# Altium schematic symbol library [R] Резисторы.SchLib: 168 symbols (part 1 of 2)
Pins are listed as number, name and electrical type; pins without a type are passive.

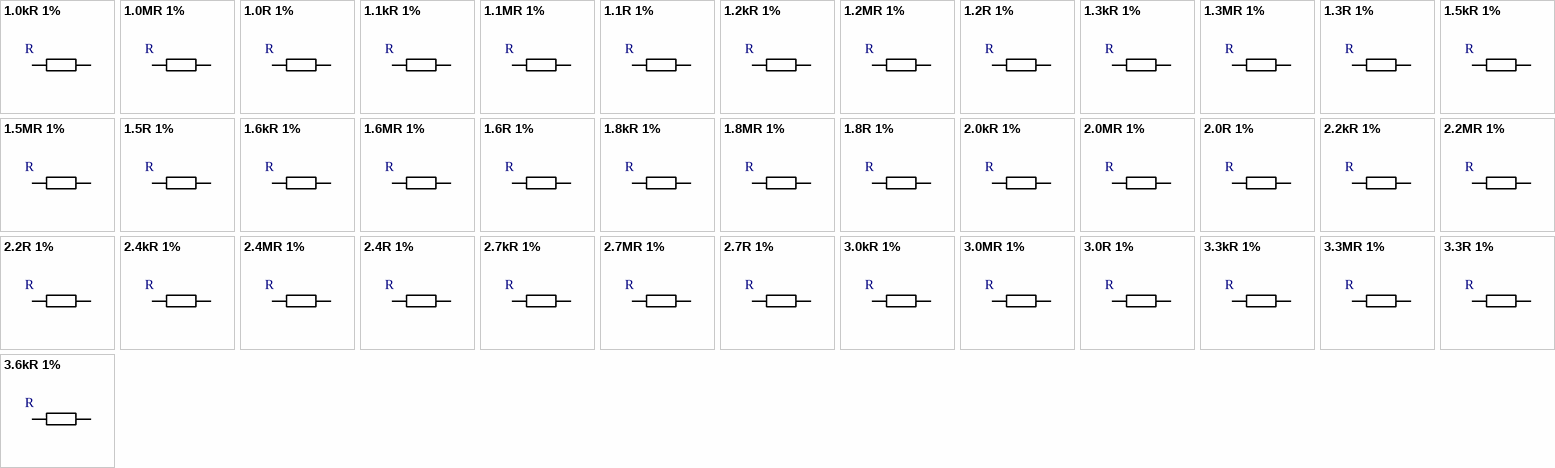
[diagram p0: symbols 1.0kR 1% to 3.6kR 1%]

## 1.0kR 1%
designator R
Сопротивление, кОм: 1,0; Допуск: 1%; ТКС, ppm/C°: 200; ComponentLink1Description: Мануал; ComponentLink1URL: https://cdn.promelec.ru/upload/items/2020/01/22/RC0075-RC2512_Yageoo_SMD-R_.pdf?_gl=1*1iqht8i*_ga*MTI0MzM3MDg3NS4xNzIyNzAwMzYz*_ga_LY608YRQ43*MTcyNTExODQ4Mi41LjEuMTcyNTEyNDIzMC4wLjAuMA..; Мощность, Вт: *
footprint RC 0603
footprint RC 0201
footprint RC 0402
footprint RC 0805
footprint RC 1206
footprint RC 2010
footprint RC 2512
pins: 1, 2

## 1.0MR 1%
designator R
Сопротивление, кОм: 1000; Допуск: 1%; ТКС, ppm/C°: 200; ComponentLink1Description: Мануал; ComponentLink1URL: https://cdn.promelec.ru/upload/items/2020/01/22/RC0075-RC2512_Yageoo_SMD-R_.pdf?_gl=1*1iqht8i*_ga*MTI0MzM3MDg3NS4xNzIyNzAwMzYz*_ga_LY608YRQ43*MTcyNTExODQ4Mi41LjEuMTcyNTEyNDIzMC4wLjAuMA..; Мощность, Вт: *
footprint RC 0603
footprint RC 0201
footprint RC 0402
footprint RC 0805
footprint RC 1206
footprint RC 2010
footprint RC 2512
pins: 1, 2

## 1.0R 1%
designator R
Сопротивление, кОм: 0,0010; Допуск: 1%; ТКС, ppm/C°: 200; ComponentLink1Description: Мануал; ComponentLink1URL: https://cdn.promelec.ru/upload/items/2020/01/22/RC0075-RC2512_Yageoo_SMD-R_.pdf?_gl=1*1iqht8i*_ga*MTI0MzM3MDg3NS4xNzIyNzAwMzYz*_ga_LY608YRQ43*MTcyNTExODQ4Mi41LjEuMTcyNTEyNDIzMC4wLjAuMA..; Мощность, Вт: *
footprint RC 0603
footprint RC 0201
footprint RC 0402
footprint RC 0805
footprint RC 1206
footprint RC 2010
footprint RC 2512
pins: 1, 2

## 1.1kR 1%
designator R
Сопротивление, кОм: 1,1; Допуск: 1%; ТКС, ppm/C°: 200; ComponentLink1Description: Мануал; ComponentLink1URL: https://cdn.promelec.ru/upload/items/2020/01/22/RC0075-RC2512_Yageoo_SMD-R_.pdf?_gl=1*1iqht8i*_ga*MTI0MzM3MDg3NS4xNzIyNzAwMzYz*_ga_LY608YRQ43*MTcyNTExODQ4Mi41LjEuMTcyNTEyNDIzMC4wLjAuMA..; Мощность, Вт: *
footprint RC 0603
footprint RC 0201
footprint RC 0402
footprint RC 0805
footprint RC 1206
footprint RC 2010
footprint RC 2512
pins: 1, 2

## 1.1MR 1%
designator R
Сопротивление, кОм: 1100; Допуск: 1%; ТКС, ppm/C°: 200; ComponentLink1Description: Мануал; ComponentLink1URL: https://cdn.promelec.ru/upload/items/2020/01/22/RC0075-RC2512_Yageoo_SMD-R_.pdf?_gl=1*1iqht8i*_ga*MTI0MzM3MDg3NS4xNzIyNzAwMzYz*_ga_LY608YRQ43*MTcyNTExODQ4Mi41LjEuMTcyNTEyNDIzMC4wLjAuMA..; Мощность, Вт: *
footprint RC 0603
footprint RC 0201
footprint RC 0402
footprint RC 0805
footprint RC 1206
footprint RC 2010
footprint RC 2512
pins: 1, 2

## 1.1R 1%
designator R
Сопротивление, кОм: 0,0011; Допуск: 1%; ТКС, ppm/C°: 200; ComponentLink1Description: Мануал; ComponentLink1URL: https://cdn.promelec.ru/upload/items/2020/01/22/RC0075-RC2512_Yageoo_SMD-R_.pdf?_gl=1*1iqht8i*_ga*MTI0MzM3MDg3NS4xNzIyNzAwMzYz*_ga_LY608YRQ43*MTcyNTExODQ4Mi41LjEuMTcyNTEyNDIzMC4wLjAuMA..; Мощность, Вт: *
footprint RC 0603
footprint RC 0201
footprint RC 0402
footprint RC 0805
footprint RC 1206
footprint RC 2010
footprint RC 2512
pins: 1, 2

## 1.2kR 1%
designator R
Сопротивление, кОм: 1,2; Допуск: 1%; ТКС, ppm/C°: 200; ComponentLink1Description: Мануал; ComponentLink1URL: https://cdn.promelec.ru/upload/items/2020/01/22/RC0075-RC2512_Yageoo_SMD-R_.pdf?_gl=1*1iqht8i*_ga*MTI0MzM3MDg3NS4xNzIyNzAwMzYz*_ga_LY608YRQ43*MTcyNTExODQ4Mi41LjEuMTcyNTEyNDIzMC4wLjAuMA..; Мощность, Вт: *
footprint RC 0603
footprint RC 0201
footprint RC 0402
footprint RC 0805
footprint RC 1206
footprint RC 2010
footprint RC 2512
pins: 1, 2

## 1.2MR 1%
designator R
Сопротивление, кОм: 1200; Допуск: 1%; ТКС, ppm/C°: 200; ComponentLink1Description: Мануал; ComponentLink1URL: https://cdn.promelec.ru/upload/items/2020/01/22/RC0075-RC2512_Yageoo_SMD-R_.pdf?_gl=1*1iqht8i*_ga*MTI0MzM3MDg3NS4xNzIyNzAwMzYz*_ga_LY608YRQ43*MTcyNTExODQ4Mi41LjEuMTcyNTEyNDIzMC4wLjAuMA..; Мощность, Вт: *
footprint RC 0603
footprint RC 0201
footprint RC 0402
footprint RC 0805
footprint RC 1206
footprint RC 2010
footprint RC 2512
pins: 1, 2

## 1.2R 1%
designator R
Сопротивление, кОм: 0,0012; Допуск: 1%; ТКС, ppm/C°: 200; ComponentLink1Description: Мануал; ComponentLink1URL: https://cdn.promelec.ru/upload/items/2020/01/22/RC0075-RC2512_Yageoo_SMD-R_.pdf?_gl=1*1iqht8i*_ga*MTI0MzM3MDg3NS4xNzIyNzAwMzYz*_ga_LY608YRQ43*MTcyNTExODQ4Mi41LjEuMTcyNTEyNDIzMC4wLjAuMA..; Мощность, Вт: *
footprint RC 0603
footprint RC 0201
footprint RC 0402
footprint RC 0805
footprint RC 1206
footprint RC 2010
footprint RC 2512
pins: 1, 2

## 1.3kR 1%
designator R
Сопротивление, кОм: 1,3; Допуск: 1%; ТКС, ppm/C°: 200; ComponentLink1Description: Мануал; ComponentLink1URL: https://cdn.promelec.ru/upload/items/2020/01/22/RC0075-RC2512_Yageoo_SMD-R_.pdf?_gl=1*1iqht8i*_ga*MTI0MzM3MDg3NS4xNzIyNzAwMzYz*_ga_LY608YRQ43*MTcyNTExODQ4Mi41LjEuMTcyNTEyNDIzMC4wLjAuMA..; Мощность, Вт: *
footprint RC 0603
footprint RC 0201
footprint RC 0402
footprint RC 0805
footprint RC 1206
footprint RC 2010
footprint RC 2512
pins: 1, 2

## 1.3MR 1%
designator R
Сопротивление, кОм: 1300; Допуск: 1%; ТКС, ppm/C°: 200; ComponentLink1Description: Мануал; ComponentLink1URL: https://cdn.promelec.ru/upload/items/2020/01/22/RC0075-RC2512_Yageoo_SMD-R_.pdf?_gl=1*1iqht8i*_ga*MTI0MzM3MDg3NS4xNzIyNzAwMzYz*_ga_LY608YRQ43*MTcyNTExODQ4Mi41LjEuMTcyNTEyNDIzMC4wLjAuMA..; Мощность, Вт: *
footprint RC 0603
footprint RC 0201
footprint RC 0402
footprint RC 0805
footprint RC 1206
footprint RC 2010
footprint RC 2512
pins: 1, 2

## 1.3R 1%
designator R
Сопротивление, кОм: 0,0013; Допуск: 1%; ТКС, ppm/C°: 200; ComponentLink1Description: Мануал; ComponentLink1URL: https://cdn.promelec.ru/upload/items/2020/01/22/RC0075-RC2512_Yageoo_SMD-R_.pdf?_gl=1*1iqht8i*_ga*MTI0MzM3MDg3NS4xNzIyNzAwMzYz*_ga_LY608YRQ43*MTcyNTExODQ4Mi41LjEuMTcyNTEyNDIzMC4wLjAuMA..; Мощность, Вт: *
footprint RC 0603
footprint RC 0201
footprint RC 0402
footprint RC 0805
footprint RC 1206
footprint RC 2010
footprint RC 2512
pins: 1, 2

## 1.5kR 1%
designator R
Сопротивление, кОм: 1,5; Допуск: 1%; ТКС, ppm/C°: 200; ComponentLink1Description: Мануал; ComponentLink1URL: https://cdn.promelec.ru/upload/items/2020/01/22/RC0075-RC2512_Yageoo_SMD-R_.pdf?_gl=1*1iqht8i*_ga*MTI0MzM3MDg3NS4xNzIyNzAwMzYz*_ga_LY608YRQ43*MTcyNTExODQ4Mi41LjEuMTcyNTEyNDIzMC4wLjAuMA..; Мощность, Вт: *
footprint RC 0603
footprint RC 0201
footprint RC 0402
footprint RC 0805
footprint RC 1206
footprint RC 2010
footprint RC 2512
pins: 1, 2

## 1.5MR 1%
designator R
Сопротивление, кОм: 1500; Допуск: 1%; ТКС, ppm/C°: 200; ComponentLink1Description: Мануал; ComponentLink1URL: https://cdn.promelec.ru/upload/items/2020/01/22/RC0075-RC2512_Yageoo_SMD-R_.pdf?_gl=1*1iqht8i*_ga*MTI0MzM3MDg3NS4xNzIyNzAwMzYz*_ga_LY608YRQ43*MTcyNTExODQ4Mi41LjEuMTcyNTEyNDIzMC4wLjAuMA..; Мощность, Вт: *
footprint RC 0603
footprint RC 0201
footprint RC 0402
footprint RC 0805
footprint RC 1206
footprint RC 2010
footprint RC 2512
pins: 1, 2

## 1.5R 1%
designator R
Сопротивление, кОм: 0,0015; Допуск: 1%; ТКС, ppm/C°: 200; ComponentLink1Description: Мануал; ComponentLink1URL: https://cdn.promelec.ru/upload/items/2020/01/22/RC0075-RC2512_Yageoo_SMD-R_.pdf?_gl=1*1iqht8i*_ga*MTI0MzM3MDg3NS4xNzIyNzAwMzYz*_ga_LY608YRQ43*MTcyNTExODQ4Mi41LjEuMTcyNTEyNDIzMC4wLjAuMA..; Мощность, Вт: *
footprint RC 0603
footprint RC 0201
footprint RC 0402
footprint RC 0805
footprint RC 1206
footprint RC 2010
footprint RC 2512
pins: 1, 2

## 1.6kR 1%
designator R
Сопротивление, кОм: 1,6; Допуск: 1%; ТКС, ppm/C°: 200; ComponentLink1Description: Мануал; ComponentLink1URL: https://cdn.promelec.ru/upload/items/2020/01/22/RC0075-RC2512_Yageoo_SMD-R_.pdf?_gl=1*1iqht8i*_ga*MTI0MzM3MDg3NS4xNzIyNzAwMzYz*_ga_LY608YRQ43*MTcyNTExODQ4Mi41LjEuMTcyNTEyNDIzMC4wLjAuMA..; Мощность, Вт: *
footprint RC 0603
footprint RC 0201
footprint RC 0402
footprint RC 0805
footprint RC 1206
footprint RC 2010
footprint RC 2512
pins: 1, 2

## 1.6MR 1%
designator R
Сопротивление, кОм: 1600; Допуск: 1%; ТКС, ppm/C°: 200; ComponentLink1Description: Мануал; ComponentLink1URL: https://cdn.promelec.ru/upload/items/2020/01/22/RC0075-RC2512_Yageoo_SMD-R_.pdf?_gl=1*1iqht8i*_ga*MTI0MzM3MDg3NS4xNzIyNzAwMzYz*_ga_LY608YRQ43*MTcyNTExODQ4Mi41LjEuMTcyNTEyNDIzMC4wLjAuMA..; Мощность, Вт: *
footprint RC 0603
footprint RC 0201
footprint RC 0402
footprint RC 0805
footprint RC 1206
footprint RC 2010
footprint RC 2512
pins: 1, 2

## 1.6R 1%
designator R
Сопротивление, кОм: 0,0016; Допуск: 1%; ТКС, ppm/C°: 200; ComponentLink1Description: Мануал; ComponentLink1URL: https://cdn.promelec.ru/upload/items/2020/01/22/RC0075-RC2512_Yageoo_SMD-R_.pdf?_gl=1*1iqht8i*_ga*MTI0MzM3MDg3NS4xNzIyNzAwMzYz*_ga_LY608YRQ43*MTcyNTExODQ4Mi41LjEuMTcyNTEyNDIzMC4wLjAuMA..; Мощность, Вт: *
footprint RC 0603
footprint RC 0201
footprint RC 0402
footprint RC 0805
footprint RC 1206
footprint RC 2010
footprint RC 2512
pins: 1, 2

## 1.8kR 1%
designator R
Сопротивление, кОм: 1,8; Допуск: 1%; ТКС, ppm/C°: 200; ComponentLink1Description: Мануал; ComponentLink1URL: https://cdn.promelec.ru/upload/items/2020/01/22/RC0075-RC2512_Yageoo_SMD-R_.pdf?_gl=1*1iqht8i*_ga*MTI0MzM3MDg3NS4xNzIyNzAwMzYz*_ga_LY608YRQ43*MTcyNTExODQ4Mi41LjEuMTcyNTEyNDIzMC4wLjAuMA..; Мощность, Вт: *
footprint RC 0603
footprint RC 0201
footprint RC 0402
footprint RC 0805
footprint RC 1206
footprint RC 2010
footprint RC 2512
pins: 1, 2

## 1.8MR 1%
designator R
Сопротивление, кОм: 1800; Допуск: 1%; ТКС, ppm/C°: 200; ComponentLink1Description: Мануал; ComponentLink1URL: https://cdn.promelec.ru/upload/items/2020/01/22/RC0075-RC2512_Yageoo_SMD-R_.pdf?_gl=1*1iqht8i*_ga*MTI0MzM3MDg3NS4xNzIyNzAwMzYz*_ga_LY608YRQ43*MTcyNTExODQ4Mi41LjEuMTcyNTEyNDIzMC4wLjAuMA..; Мощность, Вт: *
footprint RC 0603
footprint RC 0201
footprint RC 0402
footprint RC 0805
footprint RC 1206
footprint RC 2010
footprint RC 2512
pins: 1, 2

## 1.8R 1%
designator R
Сопротивление, кОм: 0,0018; Допуск: 1%; ТКС, ppm/C°: 200; ComponentLink1Description: Мануал; ComponentLink1URL: https://cdn.promelec.ru/upload/items/2020/01/22/RC0075-RC2512_Yageoo_SMD-R_.pdf?_gl=1*1iqht8i*_ga*MTI0MzM3MDg3NS4xNzIyNzAwMzYz*_ga_LY608YRQ43*MTcyNTExODQ4Mi41LjEuMTcyNTEyNDIzMC4wLjAuMA..; Мощность, Вт: *
footprint RC 0603
footprint RC 0201
footprint RC 0402
footprint RC 0805
footprint RC 1206
footprint RC 2010
footprint RC 2512
pins: 1, 2

## 2.0kR 1%
designator R
Сопротивление, кОм: 2,0; Допуск: 1%; ТКС, ppm/C°: 200; ComponentLink1Description: Мануал; ComponentLink1URL: https://cdn.promelec.ru/upload/items/2020/01/22/RC0075-RC2512_Yageoo_SMD-R_.pdf?_gl=1*1iqht8i*_ga*MTI0MzM3MDg3NS4xNzIyNzAwMzYz*_ga_LY608YRQ43*MTcyNTExODQ4Mi41LjEuMTcyNTEyNDIzMC4wLjAuMA..; Мощность, Вт: *
footprint RC 0603
footprint RC 0201
footprint RC 0402
footprint RC 0805
footprint RC 1206
footprint RC 2010
footprint RC 2512
pins: 1, 2

## 2.0MR 1%
designator R
Сопротивление, кОм: 2000; Допуск: 1%; ТКС, ppm/C°: 200; ComponentLink1Description: Мануал; ComponentLink1URL: https://cdn.promelec.ru/upload/items/2020/01/22/RC0075-RC2512_Yageoo_SMD-R_.pdf?_gl=1*1iqht8i*_ga*MTI0MzM3MDg3NS4xNzIyNzAwMzYz*_ga_LY608YRQ43*MTcyNTExODQ4Mi41LjEuMTcyNTEyNDIzMC4wLjAuMA..; Мощность, Вт: *
footprint RC 0603
footprint RC 0201
footprint RC 0402
footprint RC 0805
footprint RC 1206
footprint RC 2010
footprint RC 2512
pins: 1, 2

## 2.0R 1%
designator R
Сопротивление, кОм: 0,0020; Допуск: 1%; ТКС, ppm/C°: 200; ComponentLink1Description: Мануал; ComponentLink1URL: https://cdn.promelec.ru/upload/items/2020/01/22/RC0075-RC2512_Yageoo_SMD-R_.pdf?_gl=1*1iqht8i*_ga*MTI0MzM3MDg3NS4xNzIyNzAwMzYz*_ga_LY608YRQ43*MTcyNTExODQ4Mi41LjEuMTcyNTEyNDIzMC4wLjAuMA..; Мощность, Вт: *
footprint RC 0603
footprint RC 0201
footprint RC 0402
footprint RC 0805
footprint RC 1206
footprint RC 2010
footprint RC 2512
pins: 1, 2

## 2.2kR 1%
designator R
Сопротивление, кОм: 2,2; Допуск: 1%; ТКС, ppm/C°: 200; ComponentLink1Description: Мануал; ComponentLink1URL: https://cdn.promelec.ru/upload/items/2020/01/22/RC0075-RC2512_Yageoo_SMD-R_.pdf?_gl=1*1iqht8i*_ga*MTI0MzM3MDg3NS4xNzIyNzAwMzYz*_ga_LY608YRQ43*MTcyNTExODQ4Mi41LjEuMTcyNTEyNDIzMC4wLjAuMA..; Мощность, Вт: *
footprint RC 0603
footprint RC 0201
footprint RC 0402
footprint RC 0805
footprint RC 1206
footprint RC 2010
footprint RC 2512
pins: 1, 2

## 2.2MR 1%
designator R
Сопротивление, кОм: 2200; Допуск: 1%; ТКС, ppm/C°: 200; ComponentLink1Description: Мануал; ComponentLink1URL: https://cdn.promelec.ru/upload/items/2020/01/22/RC0075-RC2512_Yageoo_SMD-R_.pdf?_gl=1*1iqht8i*_ga*MTI0MzM3MDg3NS4xNzIyNzAwMzYz*_ga_LY608YRQ43*MTcyNTExODQ4Mi41LjEuMTcyNTEyNDIzMC4wLjAuMA..; Мощность, Вт: *
footprint RC 0603
footprint RC 0201
footprint RC 0402
footprint RC 0805
footprint RC 1206
footprint RC 2010
footprint RC 2512
pins: 1, 2

## 2.2R 1%
designator R
Сопротивление, кОм: 0,0022; Допуск: 1%; ТКС, ppm/C°: 200; ComponentLink1Description: Мануал; ComponentLink1URL: https://cdn.promelec.ru/upload/items/2020/01/22/RC0075-RC2512_Yageoo_SMD-R_.pdf?_gl=1*1iqht8i*_ga*MTI0MzM3MDg3NS4xNzIyNzAwMzYz*_ga_LY608YRQ43*MTcyNTExODQ4Mi41LjEuMTcyNTEyNDIzMC4wLjAuMA..; Мощность, Вт: *
footprint RC 0603
footprint RC 0201
footprint RC 0402
footprint RC 0805
footprint RC 1206
footprint RC 2010
footprint RC 2512
pins: 1, 2

## 2.4kR 1%
designator R
Сопротивление, кОм: 2,4; Допуск: 1%; ТКС, ppm/C°: 200; ComponentLink1Description: Мануал; ComponentLink1URL: https://cdn.promelec.ru/upload/items/2020/01/22/RC0075-RC2512_Yageoo_SMD-R_.pdf?_gl=1*1iqht8i*_ga*MTI0MzM3MDg3NS4xNzIyNzAwMzYz*_ga_LY608YRQ43*MTcyNTExODQ4Mi41LjEuMTcyNTEyNDIzMC4wLjAuMA..; Мощность, Вт: *
footprint RC 0603
footprint RC 0201
footprint RC 0402
footprint RC 0805
footprint RC 1206
footprint RC 2010
footprint RC 2512
pins: 1, 2

## 2.4MR 1%
designator R
Сопротивление, кОм: 2400; Допуск: 1%; ТКС, ppm/C°: 200; ComponentLink1Description: Мануал; ComponentLink1URL: https://cdn.promelec.ru/upload/items/2020/01/22/RC0075-RC2512_Yageoo_SMD-R_.pdf?_gl=1*1iqht8i*_ga*MTI0MzM3MDg3NS4xNzIyNzAwMzYz*_ga_LY608YRQ43*MTcyNTExODQ4Mi41LjEuMTcyNTEyNDIzMC4wLjAuMA..; Мощность, Вт: *
footprint RC 0603
footprint RC 0201
footprint RC 0402
footprint RC 0805
footprint RC 1206
footprint RC 2010
footprint RC 2512
pins: 1, 2

## 2.4R 1%
designator R
Сопротивление, кОм: 0,0024; Допуск: 1%; ТКС, ppm/C°: 200; ComponentLink1Description: Мануал; ComponentLink1URL: https://cdn.promelec.ru/upload/items/2020/01/22/RC0075-RC2512_Yageoo_SMD-R_.pdf?_gl=1*1iqht8i*_ga*MTI0MzM3MDg3NS4xNzIyNzAwMzYz*_ga_LY608YRQ43*MTcyNTExODQ4Mi41LjEuMTcyNTEyNDIzMC4wLjAuMA..; Мощность, Вт: *
footprint RC 0603
footprint RC 0201
footprint RC 0402
footprint RC 0805
footprint RC 1206
footprint RC 2010
footprint RC 2512
pins: 1, 2

## 2.7kR 1%
designator R
Сопротивление, кОм: 2,7; Допуск: 1%; ТКС, ppm/C°: 200; ComponentLink1Description: Мануал; ComponentLink1URL: https://cdn.promelec.ru/upload/items/2020/01/22/RC0075-RC2512_Yageoo_SMD-R_.pdf?_gl=1*1iqht8i*_ga*MTI0MzM3MDg3NS4xNzIyNzAwMzYz*_ga_LY608YRQ43*MTcyNTExODQ4Mi41LjEuMTcyNTEyNDIzMC4wLjAuMA..; Мощность, Вт: *
footprint RC 0603
footprint RC 0201
footprint RC 0402
footprint RC 0805
footprint RC 1206
footprint RC 2010
footprint RC 2512
pins: 1, 2

## 2.7MR 1%
designator R
Сопротивление, кОм: 2700; Допуск: 1%; ТКС, ppm/C°: 200; ComponentLink1Description: Мануал; ComponentLink1URL: https://cdn.promelec.ru/upload/items/2020/01/22/RC0075-RC2512_Yageoo_SMD-R_.pdf?_gl=1*1iqht8i*_ga*MTI0MzM3MDg3NS4xNzIyNzAwMzYz*_ga_LY608YRQ43*MTcyNTExODQ4Mi41LjEuMTcyNTEyNDIzMC4wLjAuMA..; Мощность, Вт: *
footprint RC 0603
footprint RC 0201
footprint RC 0402
footprint RC 0805
footprint RC 1206
footprint RC 2010
footprint RC 2512
pins: 1, 2

## 2.7R 1%
designator R
Сопротивление, кОм: 0,0027; Допуск: 1%; ТКС, ppm/C°: 200; ComponentLink1Description: Мануал; ComponentLink1URL: https://cdn.promelec.ru/upload/items/2020/01/22/RC0075-RC2512_Yageoo_SMD-R_.pdf?_gl=1*1iqht8i*_ga*MTI0MzM3MDg3NS4xNzIyNzAwMzYz*_ga_LY608YRQ43*MTcyNTExODQ4Mi41LjEuMTcyNTEyNDIzMC4wLjAuMA..; Мощность, Вт: *
footprint RC 0603
footprint RC 0201
footprint RC 0402
footprint RC 0805
footprint RC 1206
footprint RC 2010
footprint RC 2512
pins: 1, 2

## 3.0kR 1%
designator R
Сопротивление, кОм: 3,0; Допуск: 1%; ТКС, ppm/C°: 200; ComponentLink1Description: Мануал; ComponentLink1URL: https://cdn.promelec.ru/upload/items/2020/01/22/RC0075-RC2512_Yageoo_SMD-R_.pdf?_gl=1*1iqht8i*_ga*MTI0MzM3MDg3NS4xNzIyNzAwMzYz*_ga_LY608YRQ43*MTcyNTExODQ4Mi41LjEuMTcyNTEyNDIzMC4wLjAuMA..; Мощность, Вт: *
footprint RC 0603
footprint RC 0201
footprint RC 0402
footprint RC 0805
footprint RC 1206
footprint RC 2010
footprint RC 2512
pins: 1, 2

## 3.0MR 1%
designator R
Сопротивление, кОм: 3000; Допуск: 1%; ТКС, ppm/C°: 200; ComponentLink1Description: Мануал; ComponentLink1URL: https://cdn.promelec.ru/upload/items/2020/01/22/RC0075-RC2512_Yageoo_SMD-R_.pdf?_gl=1*1iqht8i*_ga*MTI0MzM3MDg3NS4xNzIyNzAwMzYz*_ga_LY608YRQ43*MTcyNTExODQ4Mi41LjEuMTcyNTEyNDIzMC4wLjAuMA..; Мощность, Вт: *
footprint RC 0603
footprint RC 0201
footprint RC 0402
footprint RC 0805
footprint RC 1206
footprint RC 2010
footprint RC 2512
pins: 1, 2

## 3.0R 1%
designator R
Сопротивление, кОм: 0,0030; Допуск: 1%; ТКС, ppm/C°: 200; ComponentLink1Description: Мануал; ComponentLink1URL: https://cdn.promelec.ru/upload/items/2020/01/22/RC0075-RC2512_Yageoo_SMD-R_.pdf?_gl=1*1iqht8i*_ga*MTI0MzM3MDg3NS4xNzIyNzAwMzYz*_ga_LY608YRQ43*MTcyNTExODQ4Mi41LjEuMTcyNTEyNDIzMC4wLjAuMA..; Мощность, Вт: *
footprint RC 0603
footprint RC 0201
footprint RC 0402
footprint RC 0805
footprint RC 1206
footprint RC 2010
footprint RC 2512
pins: 1, 2

## 3.3kR 1%
designator R
Сопротивление, кОм: 3,3; Допуск: 1%; ТКС, ppm/C°: 200; ComponentLink1Description: Мануал; ComponentLink1URL: https://cdn.promelec.ru/upload/items/2020/01/22/RC0075-RC2512_Yageoo_SMD-R_.pdf?_gl=1*1iqht8i*_ga*MTI0MzM3MDg3NS4xNzIyNzAwMzYz*_ga_LY608YRQ43*MTcyNTExODQ4Mi41LjEuMTcyNTEyNDIzMC4wLjAuMA..; Мощность, Вт: *
footprint RC 0603
footprint RC 0201
footprint RC 0402
footprint RC 0805
footprint RC 1206
footprint RC 2010
footprint RC 2512
pins: 1, 2

## 3.3MR 1%
designator R
Сопротивление, кОм: 3300; Допуск: 1%; ТКС, ppm/C°: 200; ComponentLink1Description: Мануал; ComponentLink1URL: https://cdn.promelec.ru/upload/items/2020/01/22/RC0075-RC2512_Yageoo_SMD-R_.pdf?_gl=1*1iqht8i*_ga*MTI0MzM3MDg3NS4xNzIyNzAwMzYz*_ga_LY608YRQ43*MTcyNTExODQ4Mi41LjEuMTcyNTEyNDIzMC4wLjAuMA..; Мощность, Вт: *
footprint RC 0603
footprint RC 0201
footprint RC 0402
footprint RC 0805
footprint RC 1206
footprint RC 2010
footprint RC 2512
pins: 1, 2

## 3.3R 1%
designator R
Сопротивление, кОм: 0,0033; Допуск: 1%; ТКС, ppm/C°: 200; ComponentLink1Description: Мануал; ComponentLink1URL: https://cdn.promelec.ru/upload/items/2020/01/22/RC0075-RC2512_Yageoo_SMD-R_.pdf?_gl=1*1iqht8i*_ga*MTI0MzM3MDg3NS4xNzIyNzAwMzYz*_ga_LY608YRQ43*MTcyNTExODQ4Mi41LjEuMTcyNTEyNDIzMC4wLjAuMA..; Мощность, Вт: *
footprint RC 0603
footprint RC 0201
footprint RC 0402
footprint RC 0805
footprint RC 1206
footprint RC 2010
footprint RC 2512
pins: 1, 2

## 3.6kR 1%
designator R
Сопротивление, кОм: 3,6; Допуск: 1%; ТКС, ppm/C°: 200; ComponentLink1Description: Мануал; ComponentLink1URL: https://cdn.promelec.ru/upload/items/2020/01/22/RC0075-RC2512_Yageoo_SMD-R_.pdf?_gl=1*1iqht8i*_ga*MTI0MzM3MDg3NS4xNzIyNzAwMzYz*_ga_LY608YRQ43*MTcyNTExODQ4Mi41LjEuMTcyNTEyNDIzMC4wLjAuMA..; Мощность, Вт: *
footprint RC 0603
footprint RC 0201
footprint RC 0402
footprint RC 0805
footprint RC 1206
footprint RC 2010
footprint RC 2512
pins: 1, 2

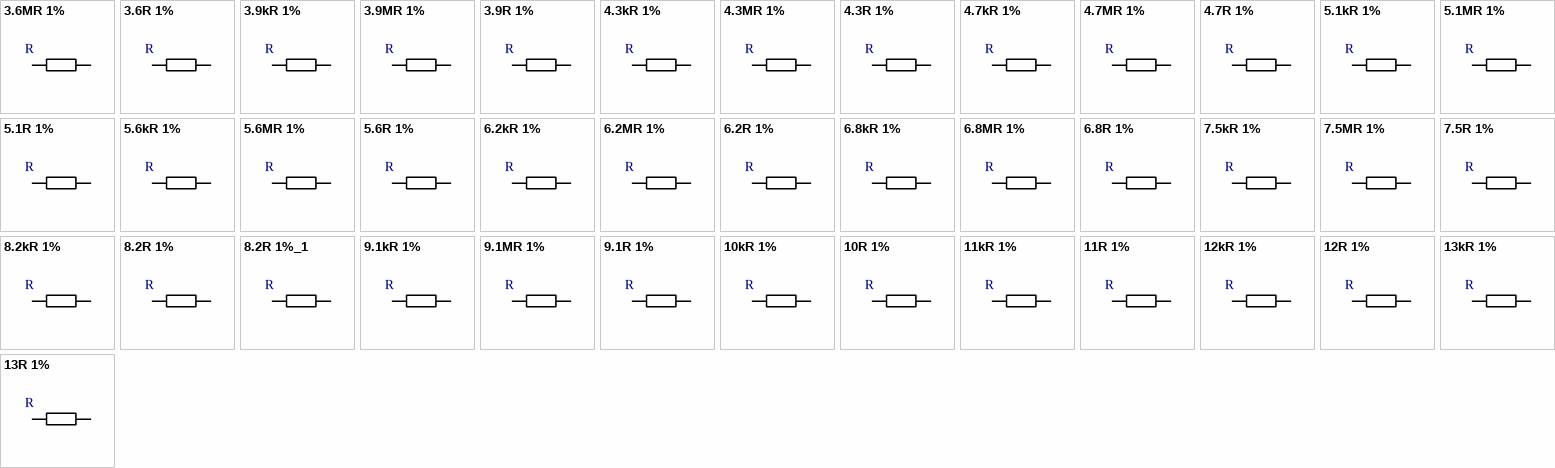
[diagram p1: symbols 3.6MR 1% to 13R 1%]

## 3.6MR 1%
designator R
Сопротивление, кОм: 3600; Допуск: 1%; ТКС, ppm/C°: 200; ComponentLink1Description: Мануал; ComponentLink1URL: https://cdn.promelec.ru/upload/items/2020/01/22/RC0075-RC2512_Yageoo_SMD-R_.pdf?_gl=1*1iqht8i*_ga*MTI0MzM3MDg3NS4xNzIyNzAwMzYz*_ga_LY608YRQ43*MTcyNTExODQ4Mi41LjEuMTcyNTEyNDIzMC4wLjAuMA..; Мощность, Вт: *
footprint RC 0603
footprint RC 0201
footprint RC 0402
footprint RC 0805
footprint RC 1206
footprint RC 2010
footprint RC 2512
pins: 1, 2

## 3.6R 1%
designator R
Сопротивление, кОм: 0,0036; Допуск: 1%; ТКС, ppm/C°: 200; ComponentLink1Description: Мануал; ComponentLink1URL: https://cdn.promelec.ru/upload/items/2020/01/22/RC0075-RC2512_Yageoo_SMD-R_.pdf?_gl=1*1iqht8i*_ga*MTI0MzM3MDg3NS4xNzIyNzAwMzYz*_ga_LY608YRQ43*MTcyNTExODQ4Mi41LjEuMTcyNTEyNDIzMC4wLjAuMA..; Мощность, Вт: *
footprint RC 0603
footprint RC 0201
footprint RC 0402
footprint RC 0805
footprint RC 1206
footprint RC 2010
footprint RC 2512
pins: 1, 2

## 3.9kR 1%
designator R
Сопротивление, кОм: 3,9; Допуск: 1%; ТКС, ppm/C°: 200; ComponentLink1Description: Мануал; ComponentLink1URL: https://cdn.promelec.ru/upload/items/2020/01/22/RC0075-RC2512_Yageoo_SMD-R_.pdf?_gl=1*1iqht8i*_ga*MTI0MzM3MDg3NS4xNzIyNzAwMzYz*_ga_LY608YRQ43*MTcyNTExODQ4Mi41LjEuMTcyNTEyNDIzMC4wLjAuMA..; Мощность, Вт: *
footprint RC 0603
footprint RC 0201
footprint RC 0402
footprint RC 0805
footprint RC 1206
footprint RC 2010
footprint RC 2512
pins: 1, 2

## 3.9MR 1%
designator R
Сопротивление, кОм: 3900; Допуск: 1%; ТКС, ppm/C°: 200; ComponentLink1Description: Мануал; ComponentLink1URL: https://cdn.promelec.ru/upload/items/2020/01/22/RC0075-RC2512_Yageoo_SMD-R_.pdf?_gl=1*1iqht8i*_ga*MTI0MzM3MDg3NS4xNzIyNzAwMzYz*_ga_LY608YRQ43*MTcyNTExODQ4Mi41LjEuMTcyNTEyNDIzMC4wLjAuMA..; Мощность, Вт: *
footprint RC 0603
footprint RC 0201
footprint RC 0402
footprint RC 0805
footprint RC 1206
footprint RC 2010
footprint RC 2512
pins: 1, 2

## 3.9R 1%
designator R
Сопротивление, кОм: 0,0039; Допуск: 1%; ТКС, ppm/C°: 200; ComponentLink1Description: Мануал; ComponentLink1URL: https://cdn.promelec.ru/upload/items/2020/01/22/RC0075-RC2512_Yageoo_SMD-R_.pdf?_gl=1*1iqht8i*_ga*MTI0MzM3MDg3NS4xNzIyNzAwMzYz*_ga_LY608YRQ43*MTcyNTExODQ4Mi41LjEuMTcyNTEyNDIzMC4wLjAuMA..; Мощность, Вт: *
footprint RC 0603
footprint RC 0201
footprint RC 0402
footprint RC 0805
footprint RC 1206
footprint RC 2010
footprint RC 2512
pins: 1, 2

## 4.3kR 1%
designator R
Сопротивление, кОм: 4,3; Допуск: 1%; ТКС, ppm/C°: 200; ComponentLink1Description: Мануал; ComponentLink1URL: https://cdn.promelec.ru/upload/items/2020/01/22/RC0075-RC2512_Yageoo_SMD-R_.pdf?_gl=1*1iqht8i*_ga*MTI0MzM3MDg3NS4xNzIyNzAwMzYz*_ga_LY608YRQ43*MTcyNTExODQ4Mi41LjEuMTcyNTEyNDIzMC4wLjAuMA..; Мощность, Вт: *
footprint RC 0603
footprint RC 0201
footprint RC 0402
footprint RC 0805
footprint RC 1206
footprint RC 2010
footprint RC 2512
pins: 1, 2

## 4.3MR 1%
designator R
Сопротивление, кОм: 4300; Допуск: 1%; ТКС, ppm/C°: 200; ComponentLink1Description: Мануал; ComponentLink1URL: https://cdn.promelec.ru/upload/items/2020/01/22/RC0075-RC2512_Yageoo_SMD-R_.pdf?_gl=1*1iqht8i*_ga*MTI0MzM3MDg3NS4xNzIyNzAwMzYz*_ga_LY608YRQ43*MTcyNTExODQ4Mi41LjEuMTcyNTEyNDIzMC4wLjAuMA..; Мощность, Вт: *
footprint RC 0603
footprint RC 0201
footprint RC 0402
footprint RC 0805
footprint RC 1206
footprint RC 2010
footprint RC 2512
pins: 1, 2

## 4.3R 1%
designator R
Сопротивление, кОм: 0,0043; Допуск: 1%; ТКС, ppm/C°: 200; ComponentLink1Description: Мануал; ComponentLink1URL: https://cdn.promelec.ru/upload/items/2020/01/22/RC0075-RC2512_Yageoo_SMD-R_.pdf?_gl=1*1iqht8i*_ga*MTI0MzM3MDg3NS4xNzIyNzAwMzYz*_ga_LY608YRQ43*MTcyNTExODQ4Mi41LjEuMTcyNTEyNDIzMC4wLjAuMA..; Мощность, Вт: *
footprint RC 0603
footprint RC 0201
footprint RC 0402
footprint RC 0805
footprint RC 1206
footprint RC 2010
footprint RC 2512
pins: 1, 2

## 4.7kR 1%
designator R
Сопротивление, кОм: 4,7; Допуск: 1%; ТКС, ppm/C°: 200; ComponentLink1Description: Мануал; ComponentLink1URL: https://cdn.promelec.ru/upload/items/2020/01/22/RC0075-RC2512_Yageoo_SMD-R_.pdf?_gl=1*1iqht8i*_ga*MTI0MzM3MDg3NS4xNzIyNzAwMzYz*_ga_LY608YRQ43*MTcyNTExODQ4Mi41LjEuMTcyNTEyNDIzMC4wLjAuMA..; Мощность, Вт: *
footprint RC 0603
footprint RC 0201
footprint RC 0402
footprint RC 0805
footprint RC 1206
footprint RC 2010
footprint RC 2512
pins: 1, 2

## 4.7MR 1%
designator R
Сопротивление, кОм: 4700; Допуск: 1%; ТКС, ppm/C°: 200; ComponentLink1Description: Мануал; ComponentLink1URL: https://cdn.promelec.ru/upload/items/2020/01/22/RC0075-RC2512_Yageoo_SMD-R_.pdf?_gl=1*1iqht8i*_ga*MTI0MzM3MDg3NS4xNzIyNzAwMzYz*_ga_LY608YRQ43*MTcyNTExODQ4Mi41LjEuMTcyNTEyNDIzMC4wLjAuMA..; Мощность, Вт: *
footprint RC 0603
footprint RC 0201
footprint RC 0402
footprint RC 0805
footprint RC 1206
footprint RC 2010
footprint RC 2512
pins: 1, 2

## 4.7R 1%
designator R
Сопротивление, кОм: 0,0047; Допуск: 1%; ТКС, ppm/C°: 200; ComponentLink1Description: Мануал; ComponentLink1URL: https://cdn.promelec.ru/upload/items/2020/01/22/RC0075-RC2512_Yageoo_SMD-R_.pdf?_gl=1*1iqht8i*_ga*MTI0MzM3MDg3NS4xNzIyNzAwMzYz*_ga_LY608YRQ43*MTcyNTExODQ4Mi41LjEuMTcyNTEyNDIzMC4wLjAuMA..; Мощность, Вт: *
footprint RC 0603
footprint RC 0201
footprint RC 0402
footprint RC 0805
footprint RC 1206
footprint RC 2010
footprint RC 2512
pins: 1, 2

## 5.1kR 1%
designator R
Сопротивление, кОм: 5,1; Допуск: 1%; ТКС, ppm/C°: 200; ComponentLink1Description: Мануал; ComponentLink1URL: https://cdn.promelec.ru/upload/items/2020/01/22/RC0075-RC2512_Yageoo_SMD-R_.pdf?_gl=1*1iqht8i*_ga*MTI0MzM3MDg3NS4xNzIyNzAwMzYz*_ga_LY608YRQ43*MTcyNTExODQ4Mi41LjEuMTcyNTEyNDIzMC4wLjAuMA..; Мощность, Вт: *
footprint RC 0603
footprint RC 0201
footprint RC 0402
footprint RC 0805
footprint RC 1206
footprint RC 2010
footprint RC 2512
pins: 1, 2

## 5.1MR 1%
designator R
Сопротивление, кОм: 5100; Допуск: 1%; ТКС, ppm/C°: 200; ComponentLink1Description: Мануал; ComponentLink1URL: https://cdn.promelec.ru/upload/items/2020/01/22/RC0075-RC2512_Yageoo_SMD-R_.pdf?_gl=1*1iqht8i*_ga*MTI0MzM3MDg3NS4xNzIyNzAwMzYz*_ga_LY608YRQ43*MTcyNTExODQ4Mi41LjEuMTcyNTEyNDIzMC4wLjAuMA..; Мощность, Вт: *
footprint RC 0603
footprint RC 0201
footprint RC 0402
footprint RC 0805
footprint RC 1206
footprint RC 2010
footprint RC 2512
pins: 1, 2

## 5.1R 1%
designator R
Сопротивление, кОм: 0,0051; Допуск: 1%; ТКС, ppm/C°: 200; ComponentLink1Description: Мануал; ComponentLink1URL: https://cdn.promelec.ru/upload/items/2020/01/22/RC0075-RC2512_Yageoo_SMD-R_.pdf?_gl=1*1iqht8i*_ga*MTI0MzM3MDg3NS4xNzIyNzAwMzYz*_ga_LY608YRQ43*MTcyNTExODQ4Mi41LjEuMTcyNTEyNDIzMC4wLjAuMA..; Мощность, Вт: *
footprint RC 0603
footprint RC 0201
footprint RC 0402
footprint RC 0805
footprint RC 1206
footprint RC 2010
footprint RC 2512
pins: 1, 2

## 5.6kR 1%
designator R
Сопротивление, кОм: 5,6; Допуск: 1%; ТКС, ppm/C°: 200; ComponentLink1Description: Мануал; ComponentLink1URL: https://cdn.promelec.ru/upload/items/2020/01/22/RC0075-RC2512_Yageoo_SMD-R_.pdf?_gl=1*1iqht8i*_ga*MTI0MzM3MDg3NS4xNzIyNzAwMzYz*_ga_LY608YRQ43*MTcyNTExODQ4Mi41LjEuMTcyNTEyNDIzMC4wLjAuMA..; Мощность, Вт: *
footprint RC 0603
footprint RC 0201
footprint RC 0402
footprint RC 0805
footprint RC 1206
footprint RC 2010
footprint RC 2512
pins: 1, 2

## 5.6MR 1%
designator R
Сопротивление, кОм: 5600; Допуск: 1%; ТКС, ppm/C°: 200; ComponentLink1Description: Мануал; ComponentLink1URL: https://cdn.promelec.ru/upload/items/2020/01/22/RC0075-RC2512_Yageoo_SMD-R_.pdf?_gl=1*1iqht8i*_ga*MTI0MzM3MDg3NS4xNzIyNzAwMzYz*_ga_LY608YRQ43*MTcyNTExODQ4Mi41LjEuMTcyNTEyNDIzMC4wLjAuMA..; Мощность, Вт: *
footprint RC 0603
footprint RC 0201
footprint RC 0402
footprint RC 0805
footprint RC 1206
footprint RC 2010
footprint RC 2512
pins: 1, 2

## 5.6R 1%
designator R
Сопротивление, кОм: 0,0056; Допуск: 1%; ТКС, ppm/C°: 200; ComponentLink1Description: Мануал; ComponentLink1URL: https://cdn.promelec.ru/upload/items/2020/01/22/RC0075-RC2512_Yageoo_SMD-R_.pdf?_gl=1*1iqht8i*_ga*MTI0MzM3MDg3NS4xNzIyNzAwMzYz*_ga_LY608YRQ43*MTcyNTExODQ4Mi41LjEuMTcyNTEyNDIzMC4wLjAuMA..; Мощность, Вт: *
footprint RC 0603
footprint RC 0201
footprint RC 0402
footprint RC 0805
footprint RC 1206
footprint RC 2010
footprint RC 2512
pins: 1, 2

## 6.2kR 1%
designator R
Сопротивление, кОм: 6,2; Допуск: 1%; ТКС, ppm/C°: 200; ComponentLink1Description: Мануал; ComponentLink1URL: https://cdn.promelec.ru/upload/items/2020/01/22/RC0075-RC2512_Yageoo_SMD-R_.pdf?_gl=1*1iqht8i*_ga*MTI0MzM3MDg3NS4xNzIyNzAwMzYz*_ga_LY608YRQ43*MTcyNTExODQ4Mi41LjEuMTcyNTEyNDIzMC4wLjAuMA..; Мощность, Вт: *
footprint RC 0603
footprint RC 0201
footprint RC 0402
footprint RC 0805
footprint RC 1206
footprint RC 2010
footprint RC 2512
pins: 1, 2

## 6.2MR 1%
designator R
Сопротивление, кОм: 6200; Допуск: 1%; ТКС, ppm/C°: 200; ComponentLink1Description: Мануал; ComponentLink1URL: https://cdn.promelec.ru/upload/items/2020/01/22/RC0075-RC2512_Yageoo_SMD-R_.pdf?_gl=1*1iqht8i*_ga*MTI0MzM3MDg3NS4xNzIyNzAwMzYz*_ga_LY608YRQ43*MTcyNTExODQ4Mi41LjEuMTcyNTEyNDIzMC4wLjAuMA..; Мощность, Вт: *
footprint RC 0603
footprint RC 0201
footprint RC 0402
footprint RC 0805
footprint RC 1206
footprint RC 2010
footprint RC 2512
pins: 1, 2

## 6.2R 1%
designator R
Сопротивление, кОм: 0,0062; Допуск: 1%; ТКС, ppm/C°: 200; ComponentLink1Description: Мануал; ComponentLink1URL: https://cdn.promelec.ru/upload/items/2020/01/22/RC0075-RC2512_Yageoo_SMD-R_.pdf?_gl=1*1iqht8i*_ga*MTI0MzM3MDg3NS4xNzIyNzAwMzYz*_ga_LY608YRQ43*MTcyNTExODQ4Mi41LjEuMTcyNTEyNDIzMC4wLjAuMA..; Мощность, Вт: *
footprint RC 0603
footprint RC 0201
footprint RC 0402
footprint RC 0805
footprint RC 1206
footprint RC 2010
footprint RC 2512
pins: 1, 2

## 6.8kR 1%
designator R
Сопротивление, кОм: 6,8; Допуск: 1%; ТКС, ppm/C°: 200; ComponentLink1Description: Мануал; ComponentLink1URL: https://cdn.promelec.ru/upload/items/2020/01/22/RC0075-RC2512_Yageoo_SMD-R_.pdf?_gl=1*1iqht8i*_ga*MTI0MzM3MDg3NS4xNzIyNzAwMzYz*_ga_LY608YRQ43*MTcyNTExODQ4Mi41LjEuMTcyNTEyNDIzMC4wLjAuMA..; Мощность, Вт: *
footprint RC 0603
footprint RC 0201
footprint RC 0402
footprint RC 0805
footprint RC 1206
footprint RC 2010
footprint RC 2512
pins: 1, 2

## 6.8MR 1%
designator R
Сопротивление, кОм: 6800; Допуск: 1%; ТКС, ppm/C°: 200; ComponentLink1Description: Мануал; ComponentLink1URL: https://cdn.promelec.ru/upload/items/2020/01/22/RC0075-RC2512_Yageoo_SMD-R_.pdf?_gl=1*1iqht8i*_ga*MTI0MzM3MDg3NS4xNzIyNzAwMzYz*_ga_LY608YRQ43*MTcyNTExODQ4Mi41LjEuMTcyNTEyNDIzMC4wLjAuMA..; Мощность, Вт: *
footprint RC 0603
footprint RC 0201
footprint RC 0402
footprint RC 0805
footprint RC 1206
footprint RC 2010
footprint RC 2512
pins: 1, 2

## 6.8R 1%
designator R
Сопротивление, кОм: 0,0068; Допуск: 1%; ТКС, ppm/C°: 200; ComponentLink1Description: Мануал; ComponentLink1URL: https://cdn.promelec.ru/upload/items/2020/01/22/RC0075-RC2512_Yageoo_SMD-R_.pdf?_gl=1*1iqht8i*_ga*MTI0MzM3MDg3NS4xNzIyNzAwMzYz*_ga_LY608YRQ43*MTcyNTExODQ4Mi41LjEuMTcyNTEyNDIzMC4wLjAuMA..; Мощность, Вт: *
footprint RC 0603
footprint RC 0201
footprint RC 0402
footprint RC 0805
footprint RC 1206
footprint RC 2010
footprint RC 2512
pins: 1, 2

## 7.5kR 1%
designator R
Сопротивление, кОм: 7,5; Допуск: 1%; ТКС, ppm/C°: 200; ComponentLink1Description: Мануал; ComponentLink1URL: https://cdn.promelec.ru/upload/items/2020/01/22/RC0075-RC2512_Yageoo_SMD-R_.pdf?_gl=1*1iqht8i*_ga*MTI0MzM3MDg3NS4xNzIyNzAwMzYz*_ga_LY608YRQ43*MTcyNTExODQ4Mi41LjEuMTcyNTEyNDIzMC4wLjAuMA..; Мощность, Вт: *
footprint RC 0603
footprint RC 0201
footprint RC 0402
footprint RC 0805
footprint RC 1206
footprint RC 2010
footprint RC 2512
pins: 1, 2

## 7.5MR 1%
designator R
Сопротивление, кОм: 7500; Допуск: 1%; ТКС, ppm/C°: 200; ComponentLink1Description: Мануал; ComponentLink1URL: https://cdn.promelec.ru/upload/items/2020/01/22/RC0075-RC2512_Yageoo_SMD-R_.pdf?_gl=1*1iqht8i*_ga*MTI0MzM3MDg3NS4xNzIyNzAwMzYz*_ga_LY608YRQ43*MTcyNTExODQ4Mi41LjEuMTcyNTEyNDIzMC4wLjAuMA..; Мощность, Вт: *
footprint RC 0603
footprint RC 0201
footprint RC 0402
footprint RC 0805
footprint RC 1206
footprint RC 2010
footprint RC 2512
pins: 1, 2

## 7.5R 1%
designator R
Сопротивление, кОм: 0,0075; Допуск: 1%; ТКС, ppm/C°: 200; ComponentLink1Description: Мануал; ComponentLink1URL: https://cdn.promelec.ru/upload/items/2020/01/22/RC0075-RC2512_Yageoo_SMD-R_.pdf?_gl=1*1iqht8i*_ga*MTI0MzM3MDg3NS4xNzIyNzAwMzYz*_ga_LY608YRQ43*MTcyNTExODQ4Mi41LjEuMTcyNTEyNDIzMC4wLjAuMA..; Мощность, Вт: *
footprint RC 0603
footprint RC 0201
footprint RC 0402
footprint RC 0805
footprint RC 1206
footprint RC 2010
footprint RC 2512
pins: 1, 2

## 8.2kR 1%
designator R
Сопротивление, кОм: 8,2; Допуск: 1%; ТКС, ppm/C°: 200; ComponentLink1Description: Мануал; ComponentLink1URL: https://cdn.promelec.ru/upload/items/2020/01/22/RC0075-RC2512_Yageoo_SMD-R_.pdf?_gl=1*1iqht8i*_ga*MTI0MzM3MDg3NS4xNzIyNzAwMzYz*_ga_LY608YRQ43*MTcyNTExODQ4Mi41LjEuMTcyNTEyNDIzMC4wLjAuMA..; Мощность, Вт: *
footprint RC 0603
footprint RC 0201
footprint RC 0402
footprint RC 0805
footprint RC 1206
footprint RC 2010
footprint RC 2512
pins: 1, 2

## 8.2R 1%
designator R
Сопротивление, кОм: 8200; Допуск: 1%; ТКС, ppm/C°: 200; ComponentLink1Description: Мануал; ComponentLink1URL: https://cdn.promelec.ru/upload/items/2020/01/22/RC0075-RC2512_Yageoo_SMD-R_.pdf?_gl=1*1iqht8i*_ga*MTI0MzM3MDg3NS4xNzIyNzAwMzYz*_ga_LY608YRQ43*MTcyNTExODQ4Mi41LjEuMTcyNTEyNDIzMC4wLjAuMA..; Мощность, Вт: *
footprint RC 0603
footprint RC 0201
footprint RC 0402
footprint RC 0805
footprint RC 1206
footprint RC 2010
footprint RC 2512
pins: 1, 2

## 8.2R 1%_1
designator R
Сопротивление, кОм: 0,0082; Допуск: 1%; ТКС, ppm/C°: 200; ComponentLink1Description: Мануал; ComponentLink1URL: https://cdn.promelec.ru/upload/items/2020/01/22/RC0075-RC2512_Yageoo_SMD-R_.pdf?_gl=1*1iqht8i*_ga*MTI0MzM3MDg3NS4xNzIyNzAwMzYz*_ga_LY608YRQ43*MTcyNTExODQ4Mi41LjEuMTcyNTEyNDIzMC4wLjAuMA..; Мощность, Вт: *
footprint RC 0603
footprint RC 0201
footprint RC 0402
footprint RC 0805
footprint RC 1206
footprint RC 2010
footprint RC 2512
pins: 1, 2

## 9.1kR 1%
designator R
Сопротивление, кОм: 9,1; Допуск: 1%; ТКС, ppm/C°: 200; ComponentLink1Description: Мануал; ComponentLink1URL: https://cdn.promelec.ru/upload/items/2020/01/22/RC0075-RC2512_Yageoo_SMD-R_.pdf?_gl=1*1iqht8i*_ga*MTI0MzM3MDg3NS4xNzIyNzAwMzYz*_ga_LY608YRQ43*MTcyNTExODQ4Mi41LjEuMTcyNTEyNDIzMC4wLjAuMA..; Мощность, Вт: *
footprint RC 0603
footprint RC 0201
footprint RC 0402
footprint RC 0805
footprint RC 1206
footprint RC 2010
footprint RC 2512
pins: 1, 2

## 9.1MR 1%
designator R
Сопротивление, кОм: 9100; Допуск: 1%; ТКС, ppm/C°: 200; ComponentLink1Description: Мануал; ComponentLink1URL: https://cdn.promelec.ru/upload/items/2020/01/22/RC0075-RC2512_Yageoo_SMD-R_.pdf?_gl=1*1iqht8i*_ga*MTI0MzM3MDg3NS4xNzIyNzAwMzYz*_ga_LY608YRQ43*MTcyNTExODQ4Mi41LjEuMTcyNTEyNDIzMC4wLjAuMA..; Мощность, Вт: *
footprint RC 0603
footprint RC 0201
footprint RC 0402
footprint RC 0805
footprint RC 1206
footprint RC 2010
footprint RC 2512
pins: 1, 2

## 9.1R 1%
designator R
Сопротивление, кОм: 0,0091; Допуск: 1%; ТКС, ppm/C°: 200; ComponentLink1Description: Мануал; ComponentLink1URL: https://cdn.promelec.ru/upload/items/2020/01/22/RC0075-RC2512_Yageoo_SMD-R_.pdf?_gl=1*1iqht8i*_ga*MTI0MzM3MDg3NS4xNzIyNzAwMzYz*_ga_LY608YRQ43*MTcyNTExODQ4Mi41LjEuMTcyNTEyNDIzMC4wLjAuMA..; Мощность, Вт: *
footprint RC 0603
footprint RC 0201
footprint RC 0402
footprint RC 0805
footprint RC 1206
footprint RC 2010
footprint RC 2512
pins: 1, 2

## 10kR 1%
designator R
Сопротивление, кОм: 10,0; Допуск: 1%; ТКС, ppm/C°: 200; ComponentLink1Description: Мануал; ComponentLink1URL: https://cdn.promelec.ru/upload/items/2020/01/22/RC0075-RC2512_Yageoo_SMD-R_.pdf?_gl=1*1iqht8i*_ga*MTI0MzM3MDg3NS4xNzIyNzAwMzYz*_ga_LY608YRQ43*MTcyNTExODQ4Mi41LjEuMTcyNTEyNDIzMC4wLjAuMA..; Мощность, Вт: *
footprint RC 0603
footprint RC 0201
footprint RC 0402
footprint RC 0805
footprint RC 1206
footprint RC 2010
footprint RC 2512
pins: 1, 2

## 10R 1%
designator R
Сопротивление, кОм: 0,010; Допуск: 1%; ТКС, ppm/C°: 200; ComponentLink1Description: Мануал; ComponentLink1URL: https://cdn.promelec.ru/upload/items/2020/01/22/RC0075-RC2512_Yageoo_SMD-R_.pdf?_gl=1*1iqht8i*_ga*MTI0MzM3MDg3NS4xNzIyNzAwMzYz*_ga_LY608YRQ43*MTcyNTExODQ4Mi41LjEuMTcyNTEyNDIzMC4wLjAuMA..; Мощность, Вт: *
footprint RC 0603
footprint RC 0201
footprint RC 0402
footprint RC 0805
footprint RC 1206
footprint RC 2010
footprint RC 2512
pins: 1, 2

## 11kR 1%
designator R
Сопротивление, кОм: 11,0; Допуск: 1%; ТКС, ppm/C°: 200; ComponentLink1Description: Мануал; ComponentLink1URL: https://cdn.promelec.ru/upload/items/2020/01/22/RC0075-RC2512_Yageoo_SMD-R_.pdf?_gl=1*1iqht8i*_ga*MTI0MzM3MDg3NS4xNzIyNzAwMzYz*_ga_LY608YRQ43*MTcyNTExODQ4Mi41LjEuMTcyNTEyNDIzMC4wLjAuMA..; Мощность, Вт: *
footprint RC 0603
footprint RC 0201
footprint RC 0402
footprint RC 0805
footprint RC 1206
footprint RC 2010
footprint RC 2512
pins: 1, 2

## 11R 1%
designator R
Сопротивление, кОм: 0,011; Допуск: 1%; ТКС, ppm/C°: 200; ComponentLink1Description: Мануал; ComponentLink1URL: https://cdn.promelec.ru/upload/items/2020/01/22/RC0075-RC2512_Yageoo_SMD-R_.pdf?_gl=1*1iqht8i*_ga*MTI0MzM3MDg3NS4xNzIyNzAwMzYz*_ga_LY608YRQ43*MTcyNTExODQ4Mi41LjEuMTcyNTEyNDIzMC4wLjAuMA..; Мощность, Вт: *
footprint RC 0603
footprint RC 0201
footprint RC 0402
footprint RC 0805
footprint RC 1206
footprint RC 2010
footprint RC 2512
pins: 1, 2

## 12kR 1%
designator R
Сопротивление, кОм: 12,0; Допуск: 1%; ТКС, ppm/C°: 200; ComponentLink1Description: Мануал; ComponentLink1URL: https://cdn.promelec.ru/upload/items/2020/01/22/RC0075-RC2512_Yageoo_SMD-R_.pdf?_gl=1*1iqht8i*_ga*MTI0MzM3MDg3NS4xNzIyNzAwMzYz*_ga_LY608YRQ43*MTcyNTExODQ4Mi41LjEuMTcyNTEyNDIzMC4wLjAuMA..; Мощность, Вт: *
footprint RC 0603
footprint RC 0201
footprint RC 0402
footprint RC 0805
footprint RC 1206
footprint RC 2010
footprint RC 2512
pins: 1, 2

## 12R 1%
designator R
Сопротивление, кОм: 0,012; Допуск: 1%; ТКС, ppm/C°: 200; ComponentLink1Description: Мануал; ComponentLink1URL: https://cdn.promelec.ru/upload/items/2020/01/22/RC0075-RC2512_Yageoo_SMD-R_.pdf?_gl=1*1iqht8i*_ga*MTI0MzM3MDg3NS4xNzIyNzAwMzYz*_ga_LY608YRQ43*MTcyNTExODQ4Mi41LjEuMTcyNTEyNDIzMC4wLjAuMA..; Мощность, Вт: *
footprint RC 0603
footprint RC 0201
footprint RC 0402
footprint RC 0805
footprint RC 1206
footprint RC 2010
footprint RC 2512
pins: 1, 2

## 13kR 1%
designator R
Сопротивление, кОм: 13,0; Допуск: 1%; ТКС, ppm/C°: 200; ComponentLink1Description: Мануал; ComponentLink1URL: https://cdn.promelec.ru/upload/items/2020/01/22/RC0075-RC2512_Yageoo_SMD-R_.pdf?_gl=1*1iqht8i*_ga*MTI0MzM3MDg3NS4xNzIyNzAwMzYz*_ga_LY608YRQ43*MTcyNTExODQ4Mi41LjEuMTcyNTEyNDIzMC4wLjAuMA..; Мощность, Вт: *
footprint RC 0603
footprint RC 0201
footprint RC 0402
footprint RC 0805
footprint RC 1206
footprint RC 2010
footprint RC 2512
pins: 1, 2

## 13R 1%
designator R
Сопротивление, кОм: 0,013; Допуск: 1%; ТКС, ppm/C°: 200; ComponentLink1Description: Мануал; ComponentLink1URL: https://cdn.promelec.ru/upload/items/2020/01/22/RC0075-RC2512_Yageoo_SMD-R_.pdf?_gl=1*1iqht8i*_ga*MTI0MzM3MDg3NS4xNzIyNzAwMzYz*_ga_LY608YRQ43*MTcyNTExODQ4Mi41LjEuMTcyNTEyNDIzMC4wLjAuMA..; Мощность, Вт: *
footprint RC 0603
footprint RC 0201
footprint RC 0402
footprint RC 0805
footprint RC 1206
footprint RC 2010
footprint RC 2512
pins: 1, 2

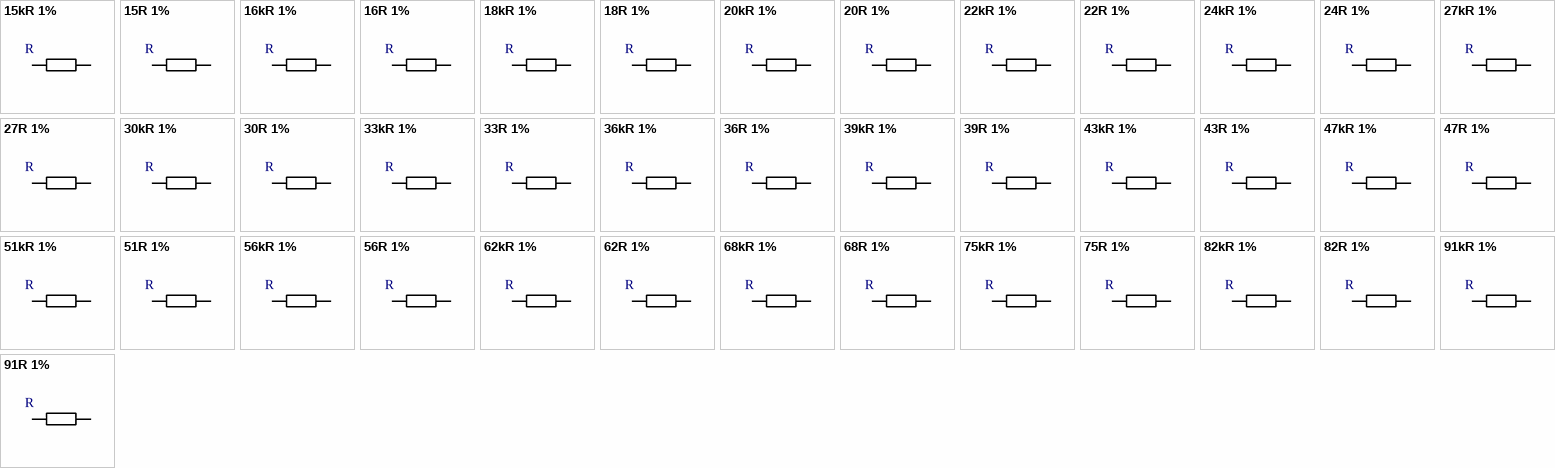
[diagram p2: symbols 15kR 1% to 91R 1%]

## 15kR 1%
designator R
Сопротивление, кОм: 15,0; Допуск: 1%; ТКС, ppm/C°: 200; ComponentLink1Description: Мануал; ComponentLink1URL: https://cdn.promelec.ru/upload/items/2020/01/22/RC0075-RC2512_Yageoo_SMD-R_.pdf?_gl=1*1iqht8i*_ga*MTI0MzM3MDg3NS4xNzIyNzAwMzYz*_ga_LY608YRQ43*MTcyNTExODQ4Mi41LjEuMTcyNTEyNDIzMC4wLjAuMA..; Мощность, Вт: *
footprint RC 0603
footprint RC 0201
footprint RC 0402
footprint RC 0805
footprint RC 1206
footprint RC 2010
footprint RC 2512
pins: 1, 2

## 15R 1%
designator R
Сопротивление, кОм: 0,015; Допуск: 1%; ТКС, ppm/C°: 200; ComponentLink1Description: Мануал; ComponentLink1URL: https://cdn.promelec.ru/upload/items/2020/01/22/RC0075-RC2512_Yageoo_SMD-R_.pdf?_gl=1*1iqht8i*_ga*MTI0MzM3MDg3NS4xNzIyNzAwMzYz*_ga_LY608YRQ43*MTcyNTExODQ4Mi41LjEuMTcyNTEyNDIzMC4wLjAuMA..; Мощность, Вт: *
footprint RC 0603
footprint RC 0201
footprint RC 0402
footprint RC 0805
footprint RC 1206
footprint RC 2010
footprint RC 2512
pins: 1, 2

## 16kR 1%
designator R
Сопротивление, кОм: 16,0; Допуск: 1%; ТКС, ppm/C°: 200; ComponentLink1Description: Мануал; ComponentLink1URL: https://cdn.promelec.ru/upload/items/2020/01/22/RC0075-RC2512_Yageoo_SMD-R_.pdf?_gl=1*1iqht8i*_ga*MTI0MzM3MDg3NS4xNzIyNzAwMzYz*_ga_LY608YRQ43*MTcyNTExODQ4Mi41LjEuMTcyNTEyNDIzMC4wLjAuMA..; Мощность, Вт: *
footprint RC 0603
footprint RC 0201
footprint RC 0402
footprint RC 0805
footprint RC 1206
footprint RC 2010
footprint RC 2512
pins: 1, 2

## 16R 1%
designator R
Сопротивление, кОм: 0,016; Допуск: 1%; ТКС, ppm/C°: 200; ComponentLink1Description: Мануал; ComponentLink1URL: https://cdn.promelec.ru/upload/items/2020/01/22/RC0075-RC2512_Yageoo_SMD-R_.pdf?_gl=1*1iqht8i*_ga*MTI0MzM3MDg3NS4xNzIyNzAwMzYz*_ga_LY608YRQ43*MTcyNTExODQ4Mi41LjEuMTcyNTEyNDIzMC4wLjAuMA..; Мощность, Вт: *
footprint RC 0603
footprint RC 0201
footprint RC 0402
footprint RC 0805
footprint RC 1206
footprint RC 2010
footprint RC 2512
pins: 1, 2

## 18kR 1%
designator R
Сопротивление, кОм: 18,0; Допуск: 1%; ТКС, ppm/C°: 200; ComponentLink1Description: Мануал; ComponentLink1URL: https://cdn.promelec.ru/upload/items/2020/01/22/RC0075-RC2512_Yageoo_SMD-R_.pdf?_gl=1*1iqht8i*_ga*MTI0MzM3MDg3NS4xNzIyNzAwMzYz*_ga_LY608YRQ43*MTcyNTExODQ4Mi41LjEuMTcyNTEyNDIzMC4wLjAuMA..; Мощность, Вт: *
footprint RC 0603
footprint RC 0201
footprint RC 0402
footprint RC 0805
footprint RC 1206
footprint RC 2010
footprint RC 2512
pins: 1, 2

## 18R 1%
designator R
Сопротивление, кОм: 0,018; Допуск: 1%; ТКС, ppm/C°: 200; ComponentLink1Description: Мануал; ComponentLink1URL: https://cdn.promelec.ru/upload/items/2020/01/22/RC0075-RC2512_Yageoo_SMD-R_.pdf?_gl=1*1iqht8i*_ga*MTI0MzM3MDg3NS4xNzIyNzAwMzYz*_ga_LY608YRQ43*MTcyNTExODQ4Mi41LjEuMTcyNTEyNDIzMC4wLjAuMA..; Мощность, Вт: *
footprint RC 0603
footprint RC 0201
footprint RC 0402
footprint RC 0805
footprint RC 1206
footprint RC 2010
footprint RC 2512
pins: 1, 2

## 20kR 1%
designator R
Сопротивление, кОм: 20,0; Допуск: 1%; ТКС, ppm/C°: 200; ComponentLink1Description: Мануал; ComponentLink1URL: https://cdn.promelec.ru/upload/items/2020/01/22/RC0075-RC2512_Yageoo_SMD-R_.pdf?_gl=1*1iqht8i*_ga*MTI0MzM3MDg3NS4xNzIyNzAwMzYz*_ga_LY608YRQ43*MTcyNTExODQ4Mi41LjEuMTcyNTEyNDIzMC4wLjAuMA..; Мощность, Вт: *
footprint RC 0603
footprint RC 0201
footprint RC 0402
footprint RC 0805
footprint RC 1206
footprint RC 2010
footprint RC 2512
pins: 1, 2

## 20R 1%
designator R
Сопротивление, кОм: 0,020; Допуск: 1%; ТКС, ppm/C°: 200; ComponentLink1Description: Мануал; ComponentLink1URL: https://cdn.promelec.ru/upload/items/2020/01/22/RC0075-RC2512_Yageoo_SMD-R_.pdf?_gl=1*1iqht8i*_ga*MTI0MzM3MDg3NS4xNzIyNzAwMzYz*_ga_LY608YRQ43*MTcyNTExODQ4Mi41LjEuMTcyNTEyNDIzMC4wLjAuMA..; Мощность, Вт: *
footprint RC 0603
footprint RC 0201
footprint RC 0402
footprint RC 0805
footprint RC 1206
footprint RC 2010
footprint RC 2512
pins: 1, 2

## 22kR 1%
designator R
Сопротивление, кОм: 22,0; Допуск: 1%; ТКС, ppm/C°: 200; ComponentLink1Description: Мануал; ComponentLink1URL: https://cdn.promelec.ru/upload/items/2020/01/22/RC0075-RC2512_Yageoo_SMD-R_.pdf?_gl=1*1iqht8i*_ga*MTI0MzM3MDg3NS4xNzIyNzAwMzYz*_ga_LY608YRQ43*MTcyNTExODQ4Mi41LjEuMTcyNTEyNDIzMC4wLjAuMA..; Мощность, Вт: *
footprint RC 0603
footprint RC 0201
footprint RC 0402
footprint RC 0805
footprint RC 1206
footprint RC 2010
footprint RC 2512
pins: 1, 2

## 22R 1%
designator R
Сопротивление, кОм: 0,022; Допуск: 1%; ТКС, ppm/C°: 200; ComponentLink1Description: Мануал; ComponentLink1URL: https://cdn.promelec.ru/upload/items/2020/01/22/RC0075-RC2512_Yageoo_SMD-R_.pdf?_gl=1*1iqht8i*_ga*MTI0MzM3MDg3NS4xNzIyNzAwMzYz*_ga_LY608YRQ43*MTcyNTExODQ4Mi41LjEuMTcyNTEyNDIzMC4wLjAuMA..; Мощность, Вт: *
footprint RC 0603
footprint RC 0201
footprint RC 0402
footprint RC 0805
footprint RC 1206
footprint RC 2010
footprint RC 2512
pins: 1, 2

## 24kR 1%
designator R
Сопротивление, кОм: 24,0; Допуск: 1%; ТКС, ppm/C°: 200; ComponentLink1Description: Мануал; ComponentLink1URL: https://cdn.promelec.ru/upload/items/2020/01/22/RC0075-RC2512_Yageoo_SMD-R_.pdf?_gl=1*1iqht8i*_ga*MTI0MzM3MDg3NS4xNzIyNzAwMzYz*_ga_LY608YRQ43*MTcyNTExODQ4Mi41LjEuMTcyNTEyNDIzMC4wLjAuMA..; Мощность, Вт: *
footprint RC 0603
footprint RC 0201
footprint RC 0402
footprint RC 0805
footprint RC 1206
footprint RC 2010
footprint RC 2512
pins: 1, 2

## 24R 1%
designator R
Сопротивление, кОм: 0,024; Допуск: 1%; ТКС, ppm/C°: 200; ComponentLink1Description: Мануал; ComponentLink1URL: https://cdn.promelec.ru/upload/items/2020/01/22/RC0075-RC2512_Yageoo_SMD-R_.pdf?_gl=1*1iqht8i*_ga*MTI0MzM3MDg3NS4xNzIyNzAwMzYz*_ga_LY608YRQ43*MTcyNTExODQ4Mi41LjEuMTcyNTEyNDIzMC4wLjAuMA..; Мощность, Вт: *
footprint RC 0603
footprint RC 0201
footprint RC 0402
footprint RC 0805
footprint RC 1206
footprint RC 2010
footprint RC 2512
pins: 1, 2

## 27kR 1%
designator R
Сопротивление, кОм: 27,0; Допуск: 1%; ТКС, ppm/C°: 200; ComponentLink1Description: Мануал; ComponentLink1URL: https://cdn.promelec.ru/upload/items/2020/01/22/RC0075-RC2512_Yageoo_SMD-R_.pdf?_gl=1*1iqht8i*_ga*MTI0MzM3MDg3NS4xNzIyNzAwMzYz*_ga_LY608YRQ43*MTcyNTExODQ4Mi41LjEuMTcyNTEyNDIzMC4wLjAuMA..; Мощность, Вт: *
footprint RC 0603
footprint RC 0201
footprint RC 0402
footprint RC 0805
footprint RC 1206
footprint RC 2010
footprint RC 2512
pins: 1, 2

## 27R 1%
designator R
Сопротивление, кОм: 0,027; Допуск: 1%; ТКС, ppm/C°: 200; ComponentLink1Description: Мануал; ComponentLink1URL: https://cdn.promelec.ru/upload/items/2020/01/22/RC0075-RC2512_Yageoo_SMD-R_.pdf?_gl=1*1iqht8i*_ga*MTI0MzM3MDg3NS4xNzIyNzAwMzYz*_ga_LY608YRQ43*MTcyNTExODQ4Mi41LjEuMTcyNTEyNDIzMC4wLjAuMA..; Мощность, Вт: *
footprint RC 0603
footprint RC 0201
footprint RC 0402
footprint RC 0805
footprint RC 1206
footprint RC 2010
footprint RC 2512
pins: 1, 2

## 30kR 1%
designator R
Сопротивление, кОм: 30,0; Допуск: 1%; ТКС, ppm/C°: 200; ComponentLink1Description: Мануал; ComponentLink1URL: https://cdn.promelec.ru/upload/items/2020/01/22/RC0075-RC2512_Yageoo_SMD-R_.pdf?_gl=1*1iqht8i*_ga*MTI0MzM3MDg3NS4xNzIyNzAwMzYz*_ga_LY608YRQ43*MTcyNTExODQ4Mi41LjEuMTcyNTEyNDIzMC4wLjAuMA..; Мощность, Вт: *
footprint RC 0603
footprint RC 0201
footprint RC 0402
footprint RC 0805
footprint RC 1206
footprint RC 2010
footprint RC 2512
pins: 1, 2

## 30R 1%
designator R
Сопротивление, кОм: 0,030; Допуск: 1%; ТКС, ppm/C°: 200; ComponentLink1Description: Мануал; ComponentLink1URL: https://cdn.promelec.ru/upload/items/2020/01/22/RC0075-RC2512_Yageoo_SMD-R_.pdf?_gl=1*1iqht8i*_ga*MTI0MzM3MDg3NS4xNzIyNzAwMzYz*_ga_LY608YRQ43*MTcyNTExODQ4Mi41LjEuMTcyNTEyNDIzMC4wLjAuMA..; Мощность, Вт: *
footprint RC 0603
footprint RC 0201
footprint RC 0402
footprint RC 0805
footprint RC 1206
footprint RC 2010
footprint RC 2512
pins: 1, 2

## 33kR 1%
designator R
Сопротивление, кОм: 33,0; Допуск: 1%; ТКС, ppm/C°: 200; ComponentLink1Description: Мануал; ComponentLink1URL: https://cdn.promelec.ru/upload/items/2020/01/22/RC0075-RC2512_Yageoo_SMD-R_.pdf?_gl=1*1iqht8i*_ga*MTI0MzM3MDg3NS4xNzIyNzAwMzYz*_ga_LY608YRQ43*MTcyNTExODQ4Mi41LjEuMTcyNTEyNDIzMC4wLjAuMA..; Мощность, Вт: *
footprint RC 0603
footprint RC 0201
footprint RC 0402
footprint RC 0805
footprint RC 1206
footprint RC 2010
footprint RC 2512
pins: 1, 2

## 33R 1%
designator R
Сопротивление, кОм: 0,033; Допуск: 1%; ТКС, ppm/C°: 200; ComponentLink1Description: Мануал; ComponentLink1URL: https://cdn.promelec.ru/upload/items/2020/01/22/RC0075-RC2512_Yageoo_SMD-R_.pdf?_gl=1*1iqht8i*_ga*MTI0MzM3MDg3NS4xNzIyNzAwMzYz*_ga_LY608YRQ43*MTcyNTExODQ4Mi41LjEuMTcyNTEyNDIzMC4wLjAuMA..; Мощность, Вт: *
footprint RC 0603
footprint RC 0201
footprint RC 0402
footprint RC 0805
footprint RC 1206
footprint RC 2010
footprint RC 2512
pins: 1, 2

## 36kR 1%
designator R
Сопротивление, кОм: 36,0; Допуск: 1%; ТКС, ppm/C°: 200; ComponentLink1Description: Мануал; ComponentLink1URL: https://cdn.promelec.ru/upload/items/2020/01/22/RC0075-RC2512_Yageoo_SMD-R_.pdf?_gl=1*1iqht8i*_ga*MTI0MzM3MDg3NS4xNzIyNzAwMzYz*_ga_LY608YRQ43*MTcyNTExODQ4Mi41LjEuMTcyNTEyNDIzMC4wLjAuMA..; Мощность, Вт: *
footprint RC 0603
footprint RC 0201
footprint RC 0402
footprint RC 0805
footprint RC 1206
footprint RC 2010
footprint RC 2512
pins: 1, 2

## 36R 1%
designator R
Сопротивление, кОм: 0,036; Допуск: 1%; ТКС, ppm/C°: 200; ComponentLink1Description: Мануал; ComponentLink1URL: https://cdn.promelec.ru/upload/items/2020/01/22/RC0075-RC2512_Yageoo_SMD-R_.pdf?_gl=1*1iqht8i*_ga*MTI0MzM3MDg3NS4xNzIyNzAwMzYz*_ga_LY608YRQ43*MTcyNTExODQ4Mi41LjEuMTcyNTEyNDIzMC4wLjAuMA..; Мощность, Вт: *
footprint RC 0603
footprint RC 0201
footprint RC 0402
footprint RC 0805
footprint RC 1206
footprint RC 2010
footprint RC 2512
pins: 1, 2

## 39kR 1%
designator R
Сопротивление, кОм: 39,0; Допуск: 1%; ТКС, ppm/C°: 200; ComponentLink1Description: Мануал; ComponentLink1URL: https://cdn.promelec.ru/upload/items/2020/01/22/RC0075-RC2512_Yageoo_SMD-R_.pdf?_gl=1*1iqht8i*_ga*MTI0MzM3MDg3NS4xNzIyNzAwMzYz*_ga_LY608YRQ43*MTcyNTExODQ4Mi41LjEuMTcyNTEyNDIzMC4wLjAuMA..; Мощность, Вт: *
footprint RC 0603
footprint RC 0201
footprint RC 0402
footprint RC 0805
footprint RC 1206
footprint RC 2010
footprint RC 2512
pins: 1, 2

## 39R 1%
designator R
Сопротивление, кОм: 0,039; Допуск: 1%; ТКС, ppm/C°: 200; ComponentLink1Description: Мануал; ComponentLink1URL: https://cdn.promelec.ru/upload/items/2020/01/22/RC0075-RC2512_Yageoo_SMD-R_.pdf?_gl=1*1iqht8i*_ga*MTI0MzM3MDg3NS4xNzIyNzAwMzYz*_ga_LY608YRQ43*MTcyNTExODQ4Mi41LjEuMTcyNTEyNDIzMC4wLjAuMA..; Мощность, Вт: *
footprint RC 0603
footprint RC 0201
footprint RC 0402
footprint RC 0805
footprint RC 1206
footprint RC 2010
footprint RC 2512
pins: 1, 2

## 43kR 1%
designator R
Сопротивление, кОм: 43,0; Допуск: 1%; ТКС, ppm/C°: 200; ComponentLink1Description: Мануал; ComponentLink1URL: https://cdn.promelec.ru/upload/items/2020/01/22/RC0075-RC2512_Yageoo_SMD-R_.pdf?_gl=1*1iqht8i*_ga*MTI0MzM3MDg3NS4xNzIyNzAwMzYz*_ga_LY608YRQ43*MTcyNTExODQ4Mi41LjEuMTcyNTEyNDIzMC4wLjAuMA..; Мощность, Вт: *
footprint RC 0603
footprint RC 0201
footprint RC 0402
footprint RC 0805
footprint RC 1206
footprint RC 2010
footprint RC 2512
pins: 1, 2

## 43R 1%
designator R
Сопротивление, кОм: 0,043; Допуск: 1%; ТКС, ppm/C°: 200; ComponentLink1Description: Мануал; ComponentLink1URL: https://cdn.promelec.ru/upload/items/2020/01/22/RC0075-RC2512_Yageoo_SMD-R_.pdf?_gl=1*1iqht8i*_ga*MTI0MzM3MDg3NS4xNzIyNzAwMzYz*_ga_LY608YRQ43*MTcyNTExODQ4Mi41LjEuMTcyNTEyNDIzMC4wLjAuMA..; Мощность, Вт: *
footprint RC 0603
footprint RC 0201
footprint RC 0402
footprint RC 0805
footprint RC 1206
footprint RC 2010
footprint RC 2512
pins: 1, 2